# Altium footprint library HEADER_M_1x2_2.54.PcbLib: 1 footprints
Each footprint in its own frame and in the unit in brackets; x right, y up, seen from the top. Pads: shape width x height; smd on the part's side, far side on the other; paste and mask are expansions set on the pad; w line width, h text height; cw(c..) or ccw(c..) is an arc to the next point about the centre after c.
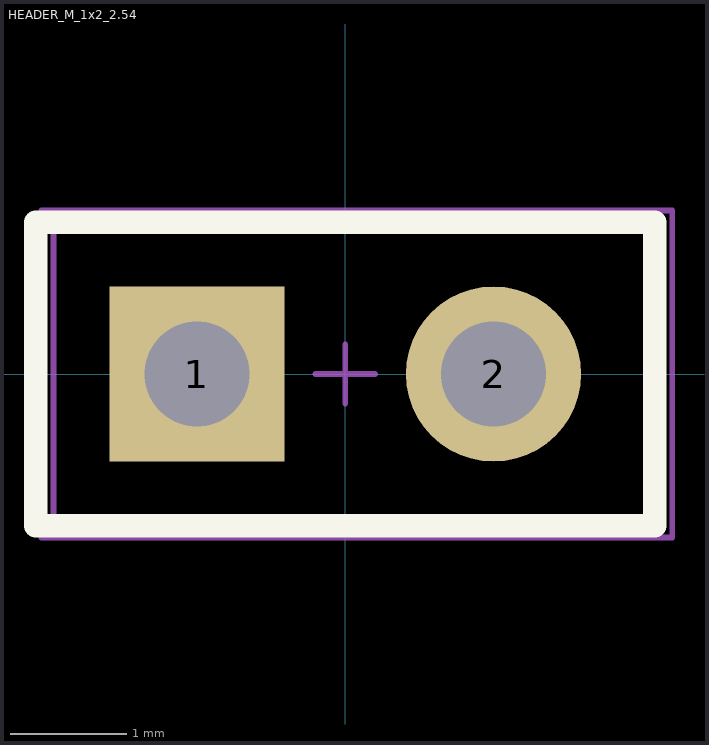
[diagram p0: the footprint, top view; thin cyan lines are the x and y axes]

## HEADER_M_1x2_2.54 [mm] "Connector; Header; 2 Position; Straight; Male"
pads (2):
  rect 1.5x1.5 hole 0.9: 1(-1.27,0)
  round 1.5 hole 0.9: 2(1.27,0)
Top Overlay:
  lines w0.2: -2.65,-1.3 2.65,-1.3 2.65,1.3 -2.65,1.3 -2.65,-1.3
Top Assembly:
  lines w0.05: -2.5,-1.3 -2.5,1.3 2.7,1.3 2.7,-1.3 -2.5,-1.3
Top Courtyard:
  lines w0.05: -0.254,0 0.254,0 ; 0,-0.254 0,0.254 ; -2.6,-1.4 -2.6,1.4 2.8,1.4 2.8,-1.4 -2.6,-1.4
3D body "pin_header_aw140-eg-g02d.stp": height 8.2, standoff -3, extent -2.44,-1.246 2.64,1.253